# Altium schematic symbol library Arduino_Promini.SchLib: 1 symbol
Pins are listed as number, name and electrical type; pins without a type are passive.

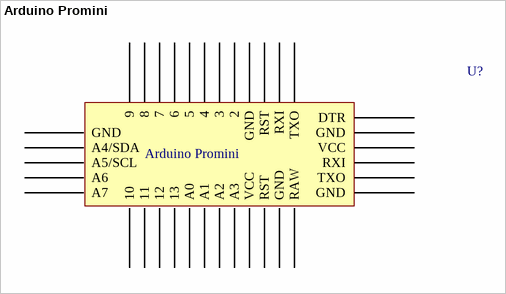
[diagram p0: symbol Arduino Promini]

## Arduino Promini
designator U?  (value not drawn)
footprint Arduino_Promini
pins: 1 9, 2 8, 3 7, 4 6, 5, 6 4, 7 3, 8 2, 9 GND, 10 RST, 11 RXI, 12 TXO, 13 DTR, 14 GND, 15 VCC, 16 RXI, 17 TXO, 18 GND, 19 RAW, 20 GND, 21 RST, 22 VCC, 23 A3, 24 A2, 25 A1, 26 A0, 27 13, 28 12, 29 11, 30 10, 31 A7, 32 A6, 33 A5/SCL, 34 A4/SDA, 35 GND